# Altium footprint library TO-92-3.PcbLib: 1 footprints
Each footprint in its own frame and in the unit in brackets; x right, y up, seen from the top. Pads: shape width x height; smd on the part's side, far side on the other; paste and mask are expansions set on the pad; w line width, h text height; cw(c..) or ccw(c..) is an arc to the next point about the centre after c.
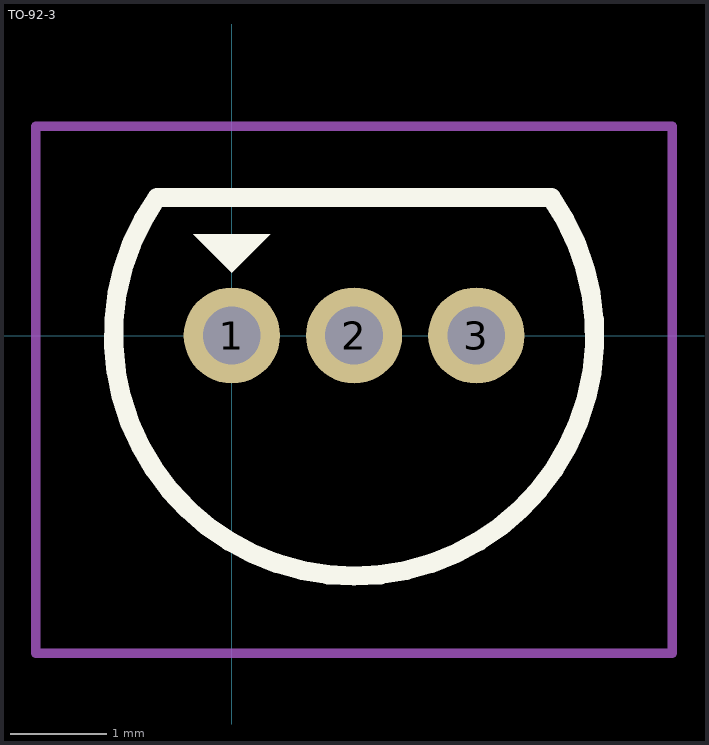
[diagram p0: the footprint, top view; thin cyan lines are the x and y axes]

## TO-92-3 [mm]
pads (3):
  round 1 hole 0.6: 1(0,0) 2(1.27,0) 3(2.54,0)
Top Overlay:
  region: -0.4,1.05 0.4,1.05 0,0.65
  lines w0.2: -0.778,1.434 ccw(c1.27,0) 3.318,1.434 -0.778,1.434
Top Courtyard:
  lines w0.1: -2.037,-3.3 -1.225,-3.3 4.575,-3.3 4.575,2.175 -2.037,2.175 -2.037,-3.3
3D body "User Library-TO-92-7.STEP": height 8.5, standoff -4, extent -1.23,-2.5 3.77,1.37